# Altium footprint library SOP.PcbLib: 17 footprints (part 1 of 2)
Each footprint in its own frame and in the unit in brackets; x right, y up, seen from the top. Pads: shape width x height; smd on the part's side, far side on the other; paste and mask are expansions set on the pad; w line width, h text height; cw(c..) or ccw(c..) is an arc to the next point about the centre after c.
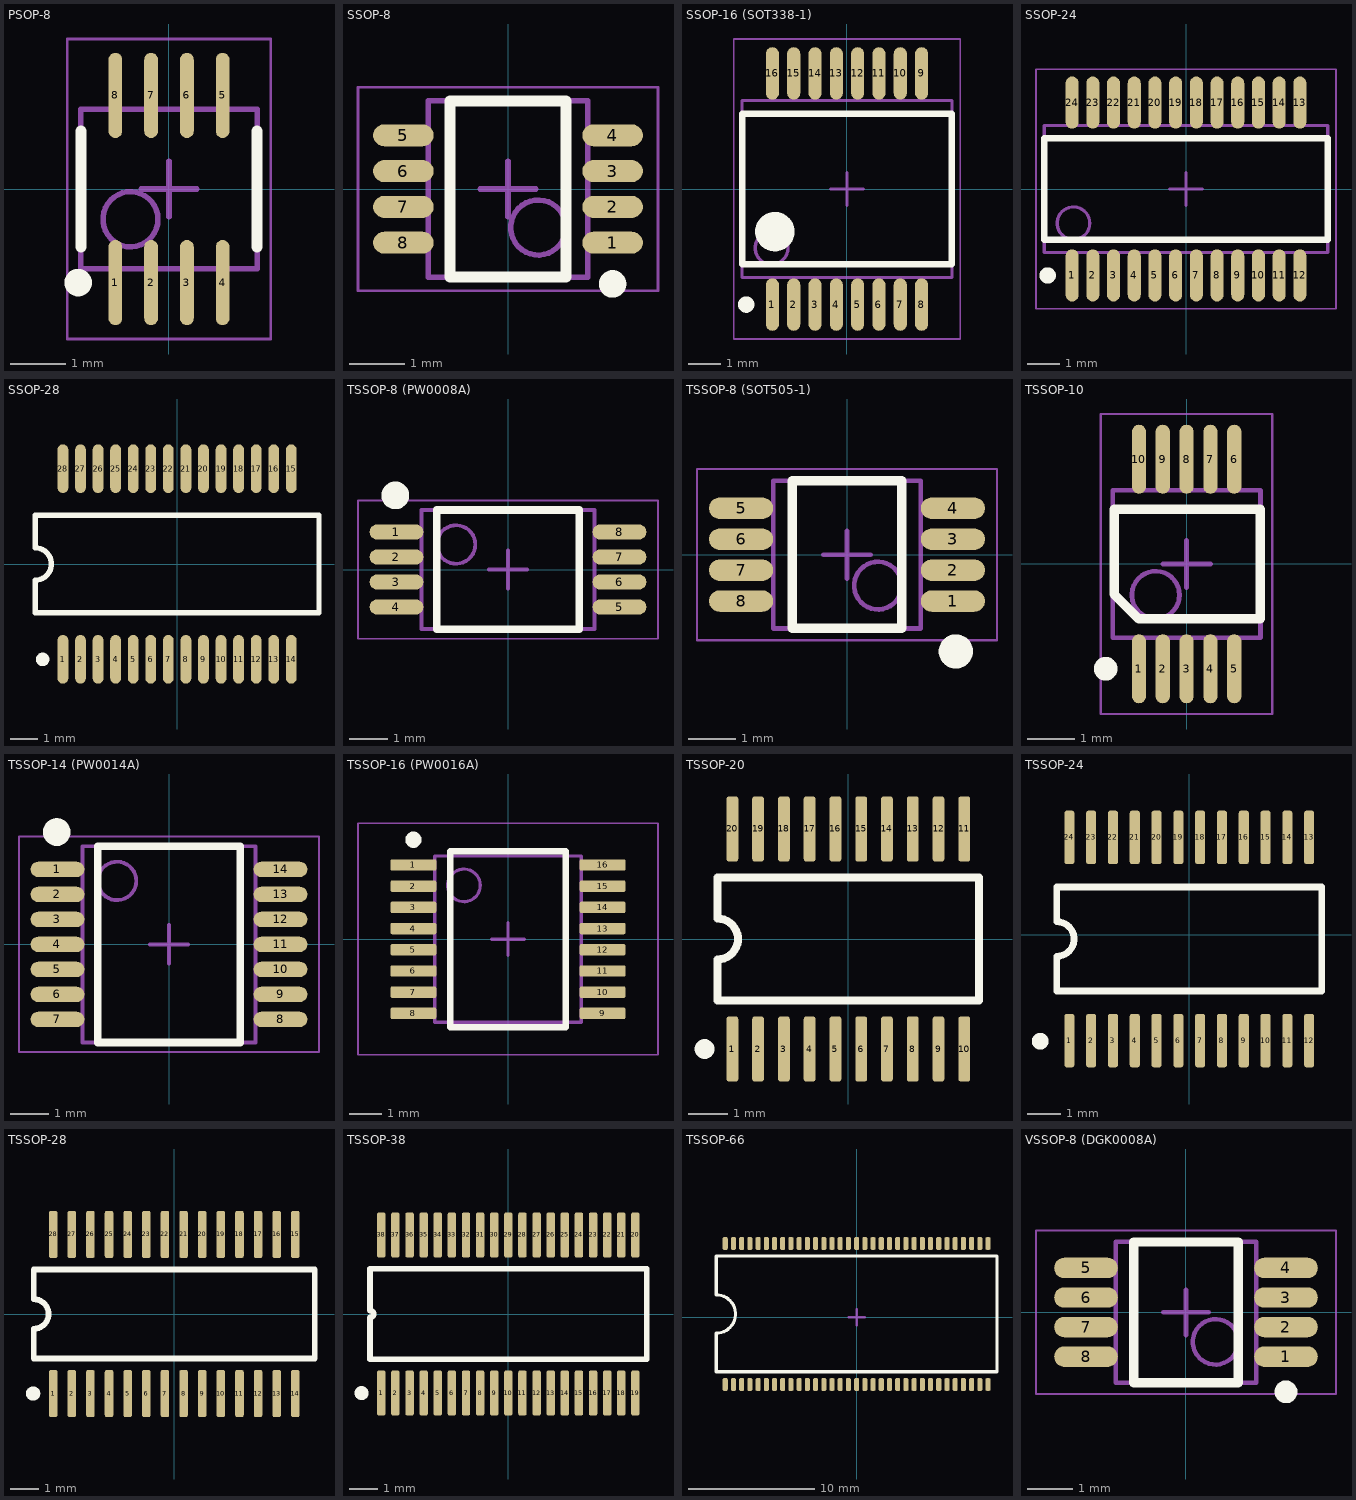
[diagram p0: the footprints below, top view; thin cyan lines are the x and y axes]

## PSOP-8 [mm] "PSOP, 8-Leads, Body 2,95x2,80mm, Pitch 0,65mm, IPC Medium Density"
height 1.3
pads (8):
  oval 0.25x1.55 smd mask+0.05: 1(-0.975,-1.7) 2(-0.325,-1.7) 3(0.325,-1.7) 4(0.975,-1.7) 5(0.975,1.7) 6(0.325,1.7) 7(-0.325,1.7) 8(-0.975,1.7)
Top Overlay:
  circle w0.25: c-1.65,-1.7 r0.125
  lines w0.2: -1.6,-1.05 -1.6,1.05 ; 1.6,-1.05 1.6,1.05
Mechanical 13:
  circle w0.1: c-0.7,-0.55 r0.5
  lines w0.1: -1.6,-1.45 -1.6,1.45 1.6,1.45 1.6,-1.45 -1.6,-1.45
Mechanical 15:
  lines w0.05: -1.85,-2.725 -1.85,2.725 1.85,2.725 1.85,-2.725 -1.85,-2.725
  lines w0.1: -0.5,0 0.5,0 ; 0,-0.5 0,0.5
3D body "PSOP-8.step": height 1.3, standoff 0, extent -1.6,-2 1.6,2

## SSOP-8 [mm] "SSOP, 8-Leads, Body 2.95x2.80mm, Pitch 0.65mm, IPC Medium Density"
height 1.3
pads (8):
  oval 1.1x0.4 smd mask+0.05: 1(1.9,-0.975) 2(1.9,-0.325) 3(1.9,0.325) 4(1.9,0.975) 5(-1.9,0.975) 6(-1.9,0.325) 7(-1.9,-0.325) 8(-1.9,-0.975)
Top Overlay:
  circle w0.25: c1.9,-1.725 r0.125
  lines w0.2: -1.05,-1.6 -1.05,1.6 1.05,1.6 1.05,-1.6 -1.05,-1.6
Mechanical 13:
  circle w0.1: c0.55,-0.7 r0.5
  lines w0.1: -1.45,-1.6 -1.45,1.6 1.45,1.6 1.45,-1.6 -1.45,-1.6
Mechanical 15:
  lines w0.05: -2.725,-1.85 -2.725,1.85 2.725,1.85 2.725,-1.85 -2.725,-1.85
  lines w0.1: -0.5,0 0.5,0 ; 0,-0.5 0,0.5
3D body "SSOP-8.step": height 1.3, standoff 0, extent -2,-1.6 2,1.6

## SSOP-16 (SOT338-1) [mm] "SSOP, 16-Leads, Body 6,20x5,30mm, Pitch 0,65mm, IPC Medium Density"
height 2
pads (16):
  oval 0.4x1.6 smd mask+0.05: 1(-2.275,-3.525) 2(-1.625,-3.525) 3(-0.975,-3.525) 4(-0.325,-3.525) 5(0.325,-3.525) 6(0.975,-3.525) 7(1.625,-3.525) 8(2.275,-3.525) 9(2.275,3.525) 10(1.625,3.525) 11(0.975,3.525) 12(0.325,3.525) 13(-0.325,3.525) 14(-0.975,3.525) 15(-1.625,3.525) 16(-2.275,3.525)
Top Overlay:
  circle w0.6: c-2.2,-1.3 r0.3
  circle w0.25: c-3.075,-3.525 r0.125
  lines w0.2: -3.2,-2.3 -3.2,2.3 3.2,2.3 3.2,-2.3 -3.2,-2.3
Mechanical 13:
  circle w0.1: c-2.3,-1.8 r0.5
  lines w0.1: -3.2,-2.7 -3.2,2.7 3.2,2.7 3.2,-2.7 -3.2,-2.7
Mechanical 15:
  lines w0.05: -3.45,-4.575 -3.45,4.575 3.45,4.575 3.45,-4.575 -3.45,-4.575
  lines w0.1: -0.5,0 0.5,0 ; 0,-0.5 0,0.5
3D body "SSOP-16 (SOT338-1).step": height 2, standoff 0, extent -3.2,-3.875 3.2,3.875

## SSOP-24 [mm] "SSOP, 24-Leads, Body 8,65x3,90mm, Pitch 0,64mm, IPC Medium Density"
height 1.75
pads (24):
  oval 0.4x1.6 smd mask+0.05: 1(-3.492,-2.65) 2(-2.857,-2.65) 3(-2.222,-2.65) 4(-1.587,-2.65) 5(-0.953,-2.65) 6(-0.318,-2.65) 7(0.318,-2.65) 8(0.953,-2.65) 9(1.587,-2.65) 10(2.222,-2.65) 11(2.857,-2.65) 12(3.492,-2.65) 13(3.492,2.65) 14(2.857,2.65) 15(2.222,2.65) 16(1.587,2.65) 17(0.953,2.65) 18(0.318,2.65) 19(-0.318,2.65) 20(-0.953,2.65) 21(-1.587,2.65) 22(-2.222,2.65) 23(-2.857,2.65) 24(-3.492,2.65)
Top Overlay:
  circle w0.25: c-4.243,-2.65 r0.125
  lines w0.2: -4.35,-1.55 4.35,-1.55 4.35,1.55 -4.35,1.55 -4.35,-1.55
Mechanical 13:
  circle w0.1: c-3.45,-1.05 r0.5
  lines w0.1: -4.35,-1.95 4.35,-1.95 4.35,1.95 -4.35,1.95 -4.35,-1.95
Mechanical 15:
  lines w0.05: -4.6,-3.675 4.6,-3.675 4.6,3.675 -4.6,3.675 -4.6,-3.675
  lines w0.1: -0.5,0 0.5,0 ; 0,-0.5 0,0.5
3D body "SSOP-24.step": height 1.75, standoff 0, extent -4.35,-3 4.35,3

## SSOP-28 [mm] "SSOP, Plastic; 28 Leads; Body Width 5.3 mm; Pitch 0.65 mm"
height 2
pads (28):
  oval 0.4x1.8 smd mask+0.05: 1(-4.225,-3.529) 2(-3.575,-3.529) 3(-2.925,-3.529) 4(-2.275,-3.529) 5(-1.625,-3.529) 6(-0.975,-3.529) 7(-0.325,-3.529) 8(0.325,-3.529) 9(0.975,-3.529) 10(1.625,-3.529) 11(2.275,-3.529) 12(2.925,-3.529) 13(3.575,-3.529) 14(4.225,-3.529) 15(4.225,3.529) 16(3.575,3.529) 17(2.925,3.529) 18(2.275,3.529) 19(1.625,3.529) 20(0.975,3.529) 21(0.325,3.529) 22(-0.325,3.529) 23(-0.975,3.529) 24(-1.625,3.529) 25(-2.275,3.529) 26(-2.925,3.529) 27(-3.575,3.529) 28(-4.225,3.529)
Top Overlay:
  circle w0.25: c-4.975,-3.529 r0.125
  lines w0.2: -5.25,-1.8 -5.25,-0.6 ccw(c-5.25,0) -5.25,0.6 -5.25,1.8 5.25,1.8 5.25,-1.8 -5.25,-1.8
3D body "User Library-SSOP-28-3.STEP": height 1.9, standoff 0, extent -5.1,-3.9 5.1,3.9

## TSSOP-8 (PW0008A) [mm] "TSSOP, 8-Leads, Body 3.00x4.40mm, Pitch 0.65mm, IPC Medium Density"
height 0.15
pads (8):
  oval 1.4x0.4 smd mask+0.05: 1(-2.9,0.975) 2(-2.9,0.325) 3(-2.9,-0.325) 4(-2.9,-0.975) 5(2.9,-0.975) 6(2.9,-0.325) 7(2.9,0.325) 8(2.9,0.975)
Top Overlay:
  circle w0.4: c-2.93,1.927 r0.16
  lines w0.2: -1.85,-1.55 -1.85,1.55 1.85,1.55 1.85,-1.55 -1.85,-1.55
Mechanical 13:
  circle w0.1: c-1.35,0.65 r0.5
  lines w0.1: -2.25,-1.55 -2.25,1.55 2.25,1.55 2.25,-1.55 -2.25,-1.55
Mechanical 15:
  lines w0.05: -3.9,-1.8 -3.9,1.8 3.9,1.8 3.9,-1.8 -3.9,-1.8
  lines w0.1: -0.5,0 0.5,0 ; 0,-0.5 0,0.5
3D body "TSSOP-8 (PW0008A).step": height 1.2, standoff 0, extent -3.2,-1.55 3.2,1.55

## TSSOP-8 (SOT505-1) [mm] "TSSOP, 8-Leads, Body 3.00x3.00mm, Pitch 0.65mm, IPC Medium Density"
height 0.15
pads (8):
  oval 1.35x0.45 smd mask+0.05: 1(2.225,-0.975) 2(2.225,-0.325) 3(2.225,0.325) 4(2.225,0.975) 5(-2.225,0.975) 6(-2.225,0.325) 7(-2.225,-0.325) 8(-2.225,-0.975)
Top Overlay:
  circle w0.4: c2.286,-2.032 r0.16
  lines w0.2: -1.15,-1.55 1.15,-1.55 1.15,1.55 -1.15,1.55 -1.15,-1.55
Mechanical 13:
  circle w0.1: c0.65,-0.65 r0.5
  lines w0.1: -1.55,-1.55 1.55,-1.55 1.55,1.55 -1.55,1.55 -1.55,-1.55
Mechanical 15:
  lines w0.05: -3.15,-1.8 3.15,-1.8 3.15,1.8 -3.15,1.8 -3.15,-1.8
  lines w0.1: -0.5,0 0.5,0 ; 0,-0.5 0,0.5
3D body "TSSOP-8 (SOT505-1).step": height 1.1, standoff 0, extent -2.45,-1.55 2.45,1.55

## TSSOP-10 [mm]
height 1.1
pads (10):
  oval 0.3x1.45 smd mask+0.05: 1(-1,-2.2) 2(-0.5,-2.2) 3(0,-2.2) 4(0.5,-2.2) 5(1,-2.2) 6(1,2.2) 7(0.5,2.2) 8(0,2.2) 9(-0.5,2.2) 10(-1,2.2)
Top Overlay:
  circle w0.25: c-1.7,-2.2 r0.125
  lines w0.2: -1.524,-0.635 -1.524,1.15 1.55,1.15 1.55,-1.15 -1.009,-1.15 -1.524,-0.635
Mechanical 13:
  circle w0.1: c-0.65,-0.65 r0.5
  lines w0.1: -1.55,-1.55 1.55,-1.55 1.55,1.55 -1.55,1.55 -1.55,-1.55
Mechanical 15:
  lines w0.05: -1.8,-3.15 1.8,-3.15 1.8,3.15 -1.8,3.15 -1.8,-3.15
  lines w0.1: -0.5,0 0.5,0 ; 0,-0.5 0,0.5
3D body "SOP127P600-8N.step": height 1.1, standoff 0, extent -1.55,-2.45 1.55,2.45

## TSSOP-14 (PW0014A) [mm] "TSSOP, 14-Leads, Body 5.00x4.40mm, Pitch 0.65mm, IPC Medium Density"
height 0.15
pads (14):
  oval 1.4x0.4 smd mask+0.05: 1(-2.9,1.95) 2(-2.9,1.3) 3(-2.9,0.65) 4(-2.9,0) 5(-2.9,-0.65) 6(-2.9,-1.3) 7(-2.9,-1.95) 8(2.9,-1.95) 9(2.9,-1.3) 10(2.9,-0.65) 11(2.9,0) 12(2.9,0.65) 13(2.9,1.3) 14(2.9,1.95)
Top Overlay:
  circle w0.4: c-2.921,2.921 r0.16
  lines w0.2: -1.85,-2.55 -1.85,2.55 1.85,2.55 1.85,-2.55 -1.85,-2.55
Mechanical 13:
  circle w0.1: c-1.35,1.65 r0.5
  lines w0.1: -2.25,-2.55 -2.25,2.55 2.25,2.55 2.25,-2.55 -2.25,-2.55
Mechanical 15:
  lines w0.05: -3.9,-2.8 -3.9,2.8 3.9,2.8 3.9,-2.8 -3.9,-2.8
  lines w0.1: -0.5,0 0.5,0 ; 0,-0.5 0,0.5
3D body "TSSOP-14(PW0014A).step": height 1.2, standoff 0, extent -3.2,-2.55 3.2,2.55

## TSSOP-16 (PW0016A) [mm] "TSSOP, 16-Leads, Body 5.00x4.40mm, Pitch 0.65mm, IPC Medium Density"
height 1.2
pads (16):
  rrect25% 1.4x0.35 smd mask+0.05: 1(-2.9,2.275) 2(-2.9,1.625) 3(-2.9,0.975) 4(-2.9,0.325) 5(-2.9,-0.325) 6(-2.9,-0.975) 7(-2.9,-1.625) 8(-2.9,-2.275) 9(2.9,-2.275) 10(2.9,-1.625) 11(2.9,-0.975) 12(2.9,-0.325) 13(2.9,0.325) 14(2.9,0.975) 15(2.9,1.625) 16(2.9,2.275)
Top Overlay:
  circle w0.25: c-2.9,3.05 r0.125
  lines w0.2: -1.778,-2.7 -1.778,2.7 1.778,2.7 1.778,-2.7 -1.778,-2.7
Mechanical 13:
  circle w0.1: c-1.35,1.65 r0.5
  lines w0.1: -2.25,-2.55 2.25,-2.55 2.25,2.55 -2.25,2.55 -2.25,-2.55
Mechanical 15:
  lines w0.05: -4.6,-3.55 -4.6,3.56 4.6,3.56 4.6,-3.55 -4.6,-3.55
  lines w0.1: -0.5,0 0.5,0 ; 0,-0.5 0,0.5
3D body "TSSOP-16 (PW0016A).step": height 1.2, standoff 0, extent -3.2,-2.55 3.2,2.55

## TSSOP-20 [mm] "Shrink Small Outline; 20 Leads; Body Width 4.4 mm; Pitch 0.65 mm"
height 1.2
pads (20):
  rrect50% 0.3x1.65 smd mask+0.05: 1(-2.925,-2.775) 2(-2.275,-2.775) 3(-1.625,-2.775) 4(-0.975,-2.775) 5(-0.325,-2.775) 6(0.325,-2.775) 7(0.975,-2.775) 8(1.625,-2.775) 9(2.275,-2.775) 10(2.925,-2.775) 11(2.925,2.775) 12(2.275,2.775) 13(1.625,2.775) 14(0.975,2.775) 15(0.325,2.775) 16(-0.325,2.775) 17(-0.975,2.775) 18(-1.625,2.775) 19(-2.275,2.775) 20(-2.925,2.775)
Top Overlay:
  circle w0.25: c-3.625,-2.775 r0.125
  lines w0.2: -3.3,-1.55 3.3,-1.55 3.3,1.55 -3.3,1.55 -3.3,0.517 cw(c-3.3,0) -3.3,-0.517 -3.3,-1.55
3D body "User Library-TSSOP-20 6_6x4_4.STEP": height 1.1, standoff 0, extent -3.3,-3.2 3.3,3.2

## TSSOP-24 [mm] "Shrink Small Outline; 24 Leads; Body Width 4.4 mm; Pitch 0.65 mm"
height 1.2
pads (24):
  rrect50% 0.3x1.6 smd mask+0.05: 1(-3.575,-3.156) 2(-2.925,-3.156) 3(-2.275,-3.156) 4(-1.625,-3.156) 5(-0.975,-3.156) 6(-0.325,-3.156) 7(0.325,-3.156) 8(0.975,-3.156) 9(1.625,-3.156) 10(2.275,-3.156) 11(2.925,-3.156) 12(3.575,-3.156) 13(3.575,2.902) 14(2.925,2.902) 15(2.275,2.902) 16(1.625,2.902) 17(0.975,2.902) 18(0.325,2.902) 19(-0.325,2.902) 20(-0.975,2.902) 21(-1.625,2.902) 22(-2.275,2.902) 23(-2.925,2.902) 24(-3.575,2.902)
Top Overlay:
  circle w0.25: c-4.445,-3.175 r0.125
  lines w0.2: -3.95,-1.677 3.95,-1.677 3.95,1.423 -3.95,1.423 -3.95,0.39 cw(c-3.95,-0.127) -3.95,-0.644 -3.95,-1.677
3D body "User Library-TSSOP-24.STEP": height 1.2, standoff 0, extent -3.9,-3.327 3.9,3.073

## TSSOP-28 [mm] "Shrink Small Outline; 28 Leads; Body Width 4.4 mm; Pitch 0.65 mm"
height 1.2
pads (28):
  rrect50% 0.3x1.65 smd mask+0.05: 1(-4.225,-2.775) 2(-3.575,-2.775) 3(-2.925,-2.775) 4(-2.275,-2.775) 5(-1.625,-2.775) 6(-0.975,-2.775) 7(-0.325,-2.775) 8(0.325,-2.775) 9(0.975,-2.775) 10(1.625,-2.775) 11(2.275,-2.775) 12(2.925,-2.775) 13(3.575,-2.775) 14(4.225,-2.775) 15(4.225,2.775) 16(3.575,2.775) 17(2.925,2.775) 18(2.275,2.775) 19(1.625,2.775) 20(0.975,2.775) 21(0.325,2.775) 22(-0.325,2.775) 23(-0.975,2.775) 24(-1.625,2.775) 25(-2.275,2.775) 26(-2.925,2.775) 27(-3.575,2.775) 28(-4.225,2.775)
Top Overlay:
  circle w0.25: c-4.925,-2.775 r0.125
  lines w0.2: -4.9,-1.55 4.9,-1.55 4.9,1.55 -4.9,1.55 -4.9,0.517 cw(c-4.9,0) -4.9,-0.517 -4.9,-1.55
3D body "User Library-TSSOP-28 9_8x4_4.STEP": height 1.1, standoff 0, extent -4.9,-3.2 4.9,3.2

## TSSOP-38 [mm] "Shrink Small Outline; 38 Leads; Body Width 4.4 mm; Pitch 0.5 mm"
height 1.2
pads (38):
  rrect50% 0.3x1.6 smd mask+0.05: 1(-4.5,-2.8) 2(-4,-2.8) 3(-3.5,-2.8) 4(-3,-2.8) 5(-2.5,-2.8) 6(-2,-2.8) 7(-1.5,-2.8) 8(-1,-2.8) 9(-0.5,-2.8) 10(0,-2.8) 11(0.5,-2.8) 12(1,-2.8) 13(1.5,-2.8) 14(2,-2.8) 15(2.5,-2.8) 16(3,-2.8) 17(3.5,-2.8) 18(4,-2.8) 19(4.5,-2.8) 20(4.5,2.8) 21(4,2.8) 22(3.5,2.8) 23(3,2.8) 24(2.5,2.8) 25(2,2.8) 26(1.5,2.8) 27(1,2.8) 28(0.5,2.8) 29(0,2.8) 30(-0.5,2.8) 31(-1,2.8) 32(-1.5,2.8) 33(-2,2.8) 34(-2.5,2.8) 35(-3,2.8) 36(-3.5,2.8) 37(-4,2.8) 38(-4.5,2.8)
Top Overlay:
  circle w0.25: c-5.2,-2.8 r0.125
  lines w0.2: -4.9,-1.6 -4.9,-0.125 ccw(c-4.9,0) -4.9,0.125 -4.9,1.6 4.9,1.6 4.9,-1.6 -4.9,-1.6
3D body "User Library-TSSOP-38-1.STEP": height 1.2, standoff 0, extent -4.85,-3.327 4.85,3.073

## TSSOP-66 [mm]
pads (66):
  rrect50% 0.4x1 smd mask+0.05: 1(-10.414,-5.334) 2(-9.764,-5.334) 3(-9.114,-5.334) 4(-8.464,-5.334) 5(-7.814,-5.334) 6(-7.164,-5.334) 7(-6.514,-5.334) 8(-5.864,-5.334) 9(-5.214,-5.334) 10(-4.564,-5.334) 11(-3.914,-5.334) 12(-3.264,-5.334) 13(-2.614,-5.334) 14(-1.964,-5.334) 15(-1.314,-5.334) 16(-0.664,-5.334) 17(-0.014,-5.334) 18(0.636,-5.334) 19(1.286,-5.334) 20(1.936,-5.334) 21(2.586,-5.334) 22(3.236,-5.334) 23(3.886,-5.334) 24(4.536,-5.334) 25(5.186,-5.334) 26(5.836,-5.334) 27(6.486,-5.334) 28(7.136,-5.334) 29(7.786,-5.334) 30(8.436,-5.334) 31(9.086,-5.334) 32(9.736,-5.334) 33(10.386,-5.334) 34(10.386,5.826) 35(9.736,5.826) 36(9.086,5.826) 37(8.436,5.826) 38(7.786,5.826) 39(7.136,5.826) 40(6.486,5.826) 41(5.836,5.826) 42(5.186,5.826) 43(4.536,5.826) 44(3.886,5.826) 45(3.236,5.826) 46(2.586,5.826) 47(1.936,5.826) 48(1.286,5.826) 49(0.636,5.826) 50(-0.014,5.826) 51(-0.664,5.826) 52(-1.314,5.826) 53(-1.964,5.826) 54(-2.614,5.826) 55(-3.264,5.826) 56(-3.914,5.826) 57(-4.564,5.826) 58(-5.214,5.826) 59(-5.864,5.826) 60(-6.514,5.826) 61(-7.164,5.826) 62(-7.814,5.826) 63(-8.464,5.826) 64(-9.114,5.826) 65(-9.764,5.826) 66(-10.414,5.826)
Top Overlay:
  lines w0.254: -11.124,-4.318 -11.124,-1.278 ccw(c-11.124,0.246) -11.124,1.77 -11.124,4.826 11.096,4.826 11.096,-4.318 -11.124,-4.318
Mechanical 15:
  lines w0.2: -0.635,0 0.635,0 ; 0,-0.635 0,0.635
3D body "User Library-tsopii66pin.step": height 1.2, standoff 0, extent -11.11,-5.626 11.11,6.134

## VSSOP-8 (DGK0008A) [mm] "VSSOP, 8-Leads, Body 3,00x3,00mm, Pitch 0,65mm, IPC Medium Density"
height 0.15
pads (8):
  oval 1.4x0.45 smd mask+0.05: 1(2.2,-0.975) 2(2.2,-0.325) 3(2.2,0.325) 4(2.2,0.975) 5(-2.2,0.975) 6(-2.2,0.325) 7(-2.2,-0.325) 8(-2.2,-0.975)
Top Overlay:
  circle w0.25: c2.2,-1.75 r0.125
  lines w0.2: -1.15,-1.55 1.15,-1.55 1.15,1.55 -1.15,1.55 -1.15,-1.55
Mechanical 13:
  circle w0.1: c0.65,-0.65 r0.5
  lines w0.1: -1.55,-1.55 1.55,-1.55 1.55,1.55 -1.55,1.55 -1.55,-1.55
Mechanical 15:
  lines w0.05: -3.3,-1.8 3.3,-1.8 3.3,1.8 -3.3,1.8 -3.3,-1.8
  lines w0.1: -0.5,0 0.5,0 ; 0,-0.5 0,0.5
3D body "VSSOP-8(DGK).step": height 1.1, standoff 0, extent -2.45,-1.55 2.45,1.55